# Altium schematic symbol library Battery.SchLib: 1 symbol
Pins are listed as number, name and electrical type; pins without a type are passive.

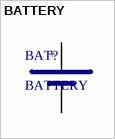
[diagram p0: symbol BATTERY]

## BATTERY
designator BAT?
footprint HU2430
pins: + 1, - 2